# EAGLE library part AXK770247G (library bontor)
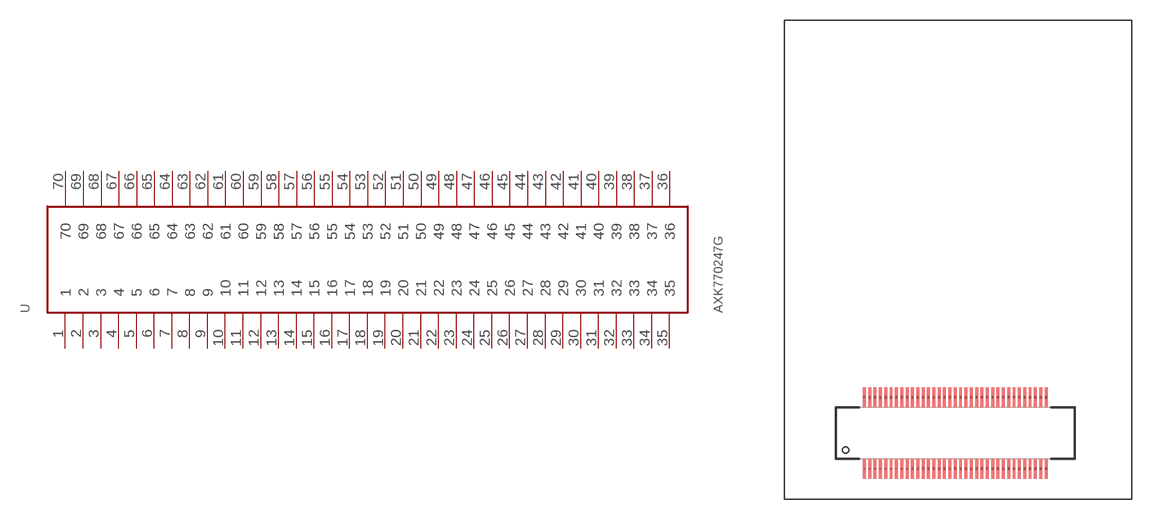
[diagram p1: symbol with the pads of B2B-CONN-04; footprint B2B-CONN-04]

Designator prefix -

## AXK770247G  [B2B-CONN-04]
1  1
2  2
3  3
4  4
5  5
6  6
7  7
8  8
9  9
10  10
11  11
12  12
13  13
14  14
15  15
16  16
17  17
18  18
19  19
20  20
21  21
22  22
23  23
24  24
25  25
26  26
27  27
28  28
29  29
30  30
31  31
32  32
33  33
34  34
35  35
36  36
37  37
38  38
39  39
40  40
41  41
42  42
43  43
44  44
45  45
46  46
47  47
48  48
49  49
50  50
51  51
52  52
53  53
54  54
55  55
56  56
57  57
58  58
59  59
60  60
61  61
62  62
63  63
64  64
65  65
66  66
67  67
68  68
69  69
70  70

## Footprint B2B-CONN-04 (pad centres in mm)
smd 0.22 x 1.5: 1 -7,-3.7; 2 -6.6,-3.7; 3 -6.2,-3.7; 4 -5.8,-3.7; 5 -5.4,-3.7; 6 -5,-3.7; 7 -4.6,-3.7; 8 -4.2,-3.7; 9 -3.8,-3.7; 10 -3.4,-3.7; 11 -3,-3.7; 12 -2.6,-3.7; 13 -2.2,-3.7; 14 -1.8,-3.7; 15 -1.4,-3.7; 16 -1,-3.7; 17 -0.6,-3.7; 18 -0.2,-3.7; 19 0.2,-3.7; 20 0.6,-3.7; 21 1,-3.7; 22 1.4,-3.7; 23 1.8,-3.7; 24 2.2,-3.7; 25 2.6,-3.7; 26 3,-3.7; 27 3.4,-3.7; 28 3.8,-3.7; 29 4.2,-3.7; 30 4.6,-3.7; 31 5,-3.7; 32 5.4,-3.7; 33 5.8,-3.7; 34 6.2,-3.7; 35 6.6,-3.7; 36 6.6,1.65; 37 6.2,1.65; 38 5.8,1.65; 39 5.4,1.65; 40 5,1.65; 41 4.6,1.65; 42 4.2,1.65; 43 3.8,1.65; 44 3.4,1.65; 45 3,1.65; 46 2.6,1.65; 47 2.2,1.65; 48 1.8,1.65; 49 1.4,1.65; 50 1,1.65; 51 0.6,1.65; 52 0.2,1.65; 53 -0.2,1.65; 54 -0.6,1.65; 55 -1,1.65; 56 -1.4,1.65; 57 -1.8,1.65; 58 -2.2,1.65; 59 -2.6,1.65; 60 -3,1.65; 61 -3.4,1.65; 62 -3.8,1.65; 63 -4.2,1.65; 64 -4.6,1.65; 65 -5,1.65; 66 -5.4,1.65; 67 -5.8,1.65; 68 -6.2,1.65; 69 -6.6,1.65; 70 -7,1.65